# EAGLE library part JST-XAD-10-PIN (library main_library)
JST XAD Connector 10 Pin 2 Row Wire to board connector. Pitch: 2,50 mm, (0.098") Number of pins: 10 Number of rows: 2 Adapted from design by Rembrandt Electronics www.rembrandtelectronics.com Edited by Michael Karrs
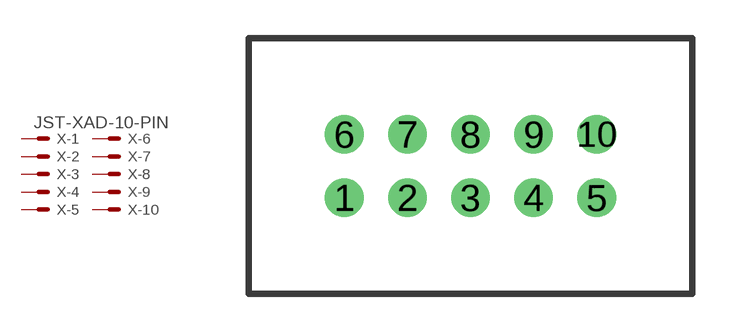
[diagram p2: symbol with the pads of JST-XAD-10-PACKAGE-ROUND-PAD; footprint JST-XAD-10-PACKAGE-ROUND-PAD]

Designator prefix X; gates -1=MV -2=M -3=M -4=M -5=M -6=M -7=M -8=M -9=M -10=M

## JST-XAD-10-PIN-LONG-PAD  [JST-XAD-10-PACKAGE-ROUND-PAD]
1  -1:S  pas
2  -2:S  pas
3  -3:S  pas
4  -4:S  pas
5  -5:S  pas
6  -6:S  pas
7  -7:S  pas
8  -8:S  pas
9  -9:S  pas
10  -10:S  pas

## Footprint JST-XAD-10-PACKAGE-ROUND-PAD (pad centres in mm)
JST XAD Connector Round Pads (Package) Wire to board connector. Pitch: 2,50 mm, (0.098") Number of pins: 10 Number of rows: 2 Adapted from footprint by Rembrandt Electronics www.rembrandtelectronics.com Edited by Michael Karrs
drill 1.016: 1 -4.978,-1.25; 2 -2.489,-1.25; 3 0,-1.25; 4 2.489,-1.25; 5 4.978,-1.25; 6 -4.978,1.25; 7 -2.489,1.25; 8 0,1.25; 9 2.489,1.25; 10 4.978,1.25